# Altium footprint library IND 68uH.PcbLib: 1 footprints
Each footprint in its own frame and in the unit in brackets; x right, y up, seen from the top. Pads: shape width x height; smd on the part's side, far side on the other; paste and mask are expansions set on the pad; w line width, h text height; cw(c..) or ccw(c..) is an arc to the next point about the centre after c.
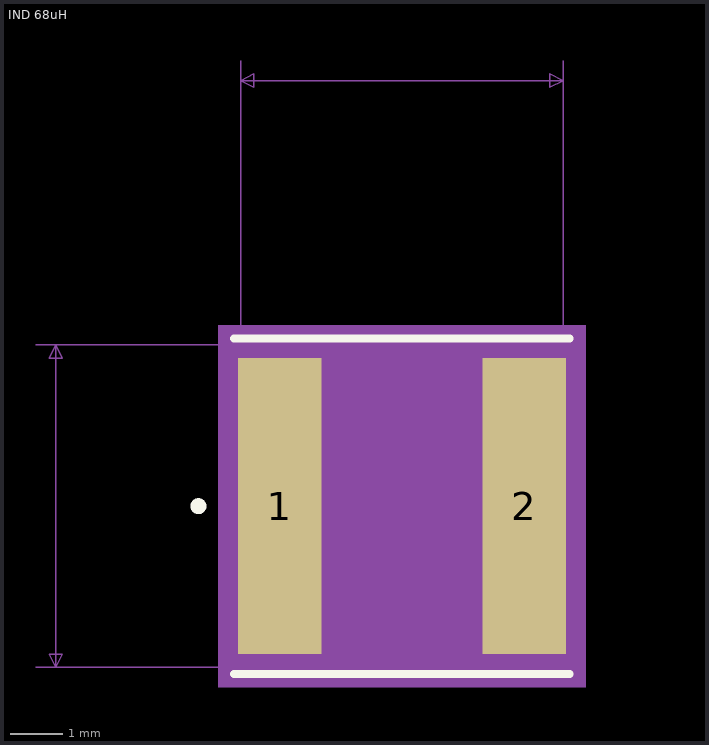
[diagram p0: the footprint, top view; thin cyan lines are the x and y axes]

## IND 68uH [mil]
pads (2):
  rect 63x224 smd paste+0 mask+0: 1(902.5,385) 2(1087.5,385)
Top Overlay:
  circle w6: c841,385 r3
  lines w6: 868,258 1122,258 ; 868,512 1122,512
Mechanical 5:
  region: 1134,248 856,248 856,522 1134,522
Mechanical 7:
  lines w1: 718,263 1127,263 ; 718,507 1127,507 ; 873,507 873,722 ; 1117,507 1117,722 ; 733,263 738,273 728,273 733,263 ; 733,263 733,507 ; 733,507 738,497 728,497 733,507 ; 873,707 883,702 883,712 873,707 ; 873,707 1117,707 ; 1117,707 1107,702 1107,712 1117,707
  text "0.244in/6.198mm" at 525.5,372.5 h25
  text "0.244in/6.198mm" at 901.25,727 h25
  text "Alt 2 Pad Style: EX90Y60D30P" at 645,-47 h50
  text "Alt 1 Pad Style: OX60Y90D30P" at 645,3 h50
  text "Default Pad Style: RX63Y224D0T" at 620,53 h50
Mechanical 13:
  circle w0: c876,385 r3
  lines w1: 873,263 873,507 1117,507 1117,263 873,263
Mechanical 15:
  region: 863,263 861,263 861,507 863,507 863,517 1127,517 1127,507 1129,507 1129,263 1127,263 1127,253 863,253
  lines w6: 861,263 863,263 863,253 1127,253 1127,263 1129,263 1129,507 1127,507 1127,517 863,517 863,507 861,507 861,263
3D body: height 10, standoff 0, extent 995,385 1005,395
3D body "IND_TAIYO_NR6028_TAY.step": height 110, standoff 0, extent 873,262.92 1117.01,507.09